# Altium footprint library dip_switches.PcbLib: 18 footprints (part 2 of 2)
Each footprint in its own frame and in the unit in brackets; x right, y up, seen from the top. Pads: shape width x height; smd on the part's side, far side on the other; paste and mask are expansions set on the pad; w line width, h text height; cw(c..) or ccw(c..) is an arc to the next point about the centre after c.
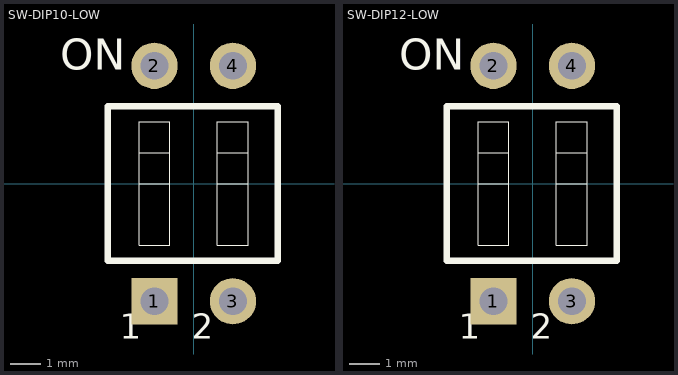
[diagram p1: the footprints below, top view; thin cyan lines are the x and y axes]

## SW-DIP10-LOW [mm] "DIP Switch; 4 Leads"
height 5.06
pads (4):
  rect 1.5x1.5 hole 0.9: 1(-1.27,-3.81)
  round 1.5 hole 0.9: 2(-1.27,3.81) 3(1.27,-3.81) 4(1.27,3.81)
Top Overlay:
  lines w0.025: -1.77,0 -0.77,0 ; -1.77,1 -0.77,1 ; 0.77,0 1.77,0 ; 0.77,1 1.77,1 ; -1.77,-2 -0.77,-2 -0.77,2 -1.77,2 -1.77,-2 ; 0.77,-2 1.77,-2 1.77,2 0.77,2 0.77,-2
  lines w0.2: -2.78,-2.5 2.72,-2.5 2.72,2.5 -2.78,2.5 -2.78,-2.5
  text "ON" at -4.318,3.678 h1
  text "1" at -2.386,-5.032 h0.8
  text "2" at -0.061,-5.032 h0.8
3D body "switch_a-dil-h10g.stp": height 4.9, standoff -2.7, extent -12.92,-5.327 12.92,2.543

## SW-DIP12-LOW [mm] "DIP Switch; 4 Leads"
height 5.06
pads (4):
  rect 1.5x1.5 hole 0.9: 1(-1.27,-3.81)
  round 1.5 hole 0.9: 2(-1.27,3.81) 3(1.27,-3.81) 4(1.27,3.81)
Top Overlay:
  lines w0.025: -1.77,0 -0.77,0 ; -1.77,1 -0.77,1 ; 0.77,0 1.77,0 ; 0.77,1 1.77,1 ; -1.77,-2 -0.77,-2 -0.77,2 -1.77,2 -1.77,-2 ; 0.77,-2 1.77,-2 1.77,2 0.77,2 0.77,-2
  lines w0.2: -2.78,-2.5 2.72,-2.5 2.72,2.5 -2.78,2.5 -2.78,-2.5
  text "ON" at -4.318,3.678 h1
  text "1" at -2.386,-5.032 h0.8
  text "2" at -0.061,-5.032 h0.8
3D body "switch_a-dil-h12g.stp": height 4.9, standoff -2.7, extent -15.66,-5.627 15.26,2.243